# Altium footprint library ETC1-1-13M.PcbLib: 1 footprints
Each footprint in its own frame and in the unit in brackets; x right, y up, seen from the top. Pads: shape width x height; smd on the part's side, far side on the other; paste and mask are expansions set on the pad; w line width, h text height; cw(c..) or ccw(c..) is an arc to the next point about the centre after c.
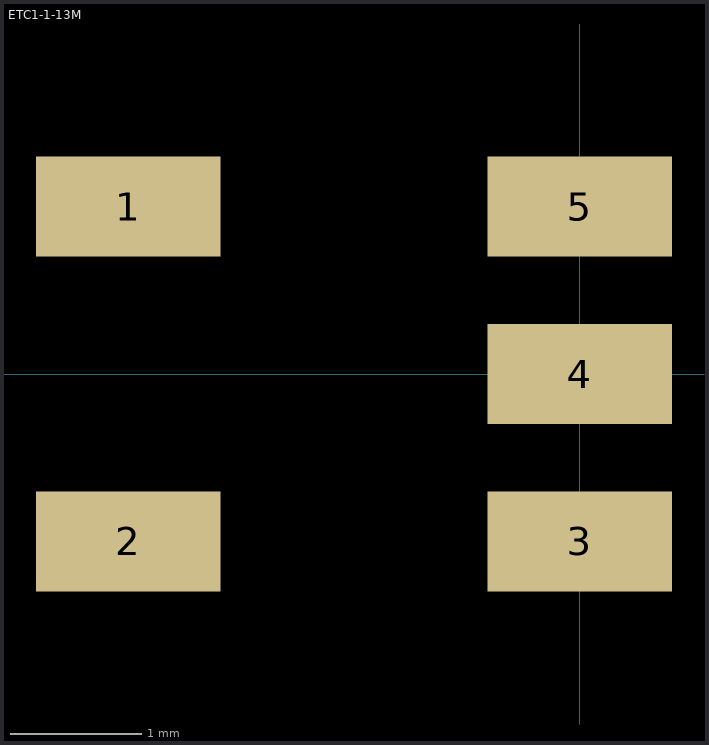
[diagram p0: the footprint, top view; thin cyan lines are the x and y axes]

## ETC1-1-13M [mm] "RF balun"
pads (5):
  rect 1.4x0.76 smd: 1(-3.43,1.27) 2(-3.43,-1.27) 3(0,-1.27) 4(0,0) 5(0,1.27)